# Altium schematic symbol library Recom.SchLib: 1 symbol
Pins are listed as number, name and electrical type; pins without a type are passive.

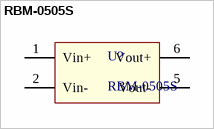
[diagram p0: symbol RBM-0505S]

## RBM-0505S
designator U?
footprint RECOM-RBM
pins: 1 Vin+, 2 Vin-, 5 Vout-, 6 Vout+